# Altium integrated library EEUFC1J221SB.IntLib: 1 symbol
Pins are listed as number, name and electrical type; pins without a type are passive.

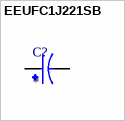
[diagram p0: symbol EEUFC1J221SB]

## EEUFC1J221SB
designator C?
Cap Aluminum Lytic 220uF 63V 20% (12.5 X 20mm) Radial 5mm 1285mA 5000h 105C Automotive Ammo; MP: EEUFC1J221SB; MF: Panasonic; SnapEDA_Link: https://www.snapeda.com/parts/EEUFC1J221SB/Panasonic/view-part/5796622/?ref=snap; Value: *; Check_prices: https://www.snapeda.com/parts/EEUFC1J221SB/Panasonic/view-part/5796622/?ref=eda; Package: RADIAL-2 Panasonic; Digi-Key_Part_Number: P19666CT-ND
footprint CAPPRD500W60D1250H2000
pins: N, P